# EAGLE library part ACS712 (library FSAE Electric (Alexander Ray's conflicted copy 2016-04-02))
Hall Effect Current Sensor 30A View on DigiKey <http://www.digikey.com/product-detail/en/ACS712ELCTR-30A-T/620-1191-1-ND/1284608>
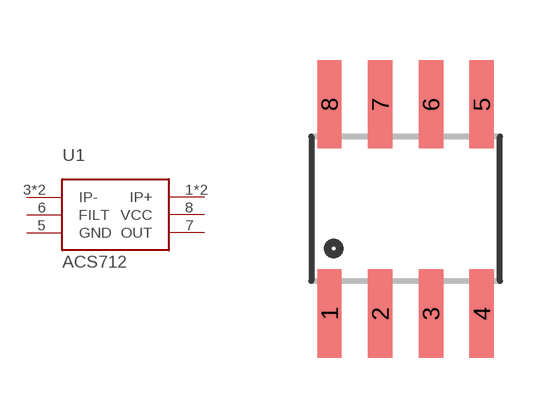
[diagram p12: symbol with the pads of SO-8; footprint SO-8]

Designator prefix U1

## ACS712-30A (PARTNO: ACS712ELCTR-30A-T)  [SO-8]
1  IP+
2  IP+
3  IP-
4  IP-
5  GND
6  FILT
7  OUT
8  VCC

## ACS712-5A (PARTNO: ACS712ELCTR-05B-T)  [SO-8]
Pads as for SO-8

## Footprint SO-8 (pad centres in mm)
smd 0.61 x 2.21: 1 -1.905,-2.616; 2 -0.635,-2.616; 3 0.635,-2.616; 4 1.905,-2.616; 5 1.905,2.616; 6 0.635,2.616; 7 -0.635,2.616; 8 -1.905,2.616